# Altium schematic symbol library STM32F103RCT6.SchLib: 5 symbols
Pins are listed as number, name and electrical type; pins without a type are passive.

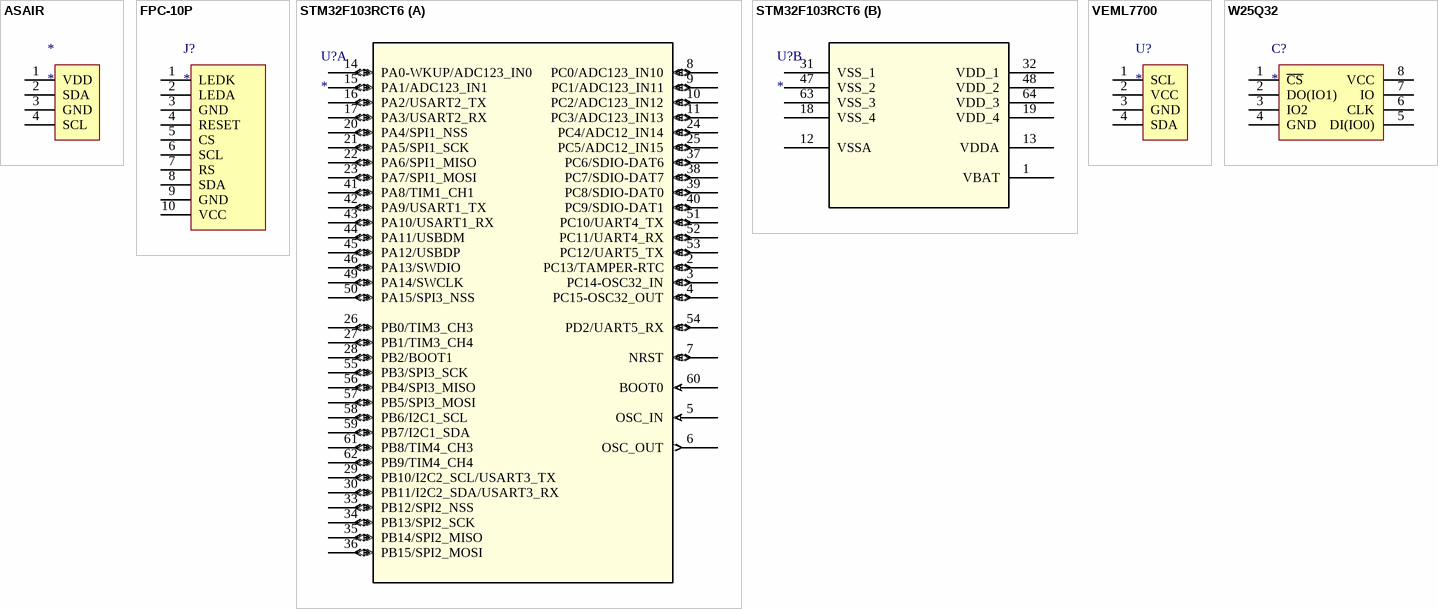
[diagram p0: symbols ASAIR to W25Q32]

## ASAIR
designator *
pins: 1 VDD, 2 SDA, 3 GND, 4 SCL

## FPC-10P
designator J?
footprint FPC-0R5-10P
pins: 1 LEDK, 2 LEDA, 3 GND, 4 RESET, 5 CS, 6 SCL, 7 RS, 8 SDA, 9 GND, 10 VCC

## STM32F103RCT6
designator U?
No Description Available; Mfr_Name: STMicroelectronics; RefDes: RefDes; Type: Type
footprint LQFP64-10x10mm
part A pins: 2 PC13/TAMPER-RTC (io), 3 PC14-OSC32_IN (io), 4 PC15-OSC32_OUT (io), 5 OSC_IN (in), 6 OSC_OUT (out), 7 NRST (io), 8 PC0/ADC123_IN10 (io), 9 PC1/ADC123_IN11 (io), 10 PC2/ADC123_IN12 (io), 11 PC3/ADC123_IN13 (io), 14 PA0-WKUP/ADC123_IN0 (io), 15 PA1/ADC123_IN1 (io), 16 PA2/USART2_TX (io), 17 PA3/USART2_RX (io), 20 PA4/SPI1_NSS (io), 21 PA5/SPI1_SCK (io), 22 PA6/SPI1_MISO (io), 23 PA7/SPI1_MOSI (io), 24 PC4/ADC12_IN14 (io), 25 PC5/ADC12_IN15 (io), 26 PB0/TIM3_CH3 (io), 27 PB1/TIM3_CH4 (io), 28 PB2/BOOT1 (io), 29 PB10/I2C2_SCL/USART3_TX (io), 30 PB11/I2C2_SDA/USART3_RX (io), 33 PB12/SPI2_NSS (io), 34 PB13/SPI2_SCK (io), 35 PB14/SPI2_MISO (io), 36 PB15/SPI2_MOSI (io), 37 PC6/SDIO-DAT6 (io), 38 PC7/SDIO-DAT7 (io), 39 PC8/SDIO-DAT0 (io), 40 PC9/SDIO-DAT1 (io), 41 PA8/TIM1_CH1 (io), 42 PA9/USART1_TX (io), 43 PA10/USART1_RX (io), 44 PA11/USBDM (io), 45 PA12/USBDP (io), 46 PA13/SWDIO (io), 49 PA14/SWCLK (io), 50 PA15/SPI3_NSS (io), 51 PC10/UART4_TX (io), 52 PC11/UART4_RX (io), 53 PC12/UART5_TX (io), 54 PD2/UART5_RX (io), 55 PB3/SPI3_SCK (io), 56 PB4/SPI3_MISO (io), 57 PB5/SPI3_MOSI (io), 58 PB6/I2C1_SCL (io), 59 PB7/I2C1_SDA (io), 60 BOOT0 (in), 61 PB8/TIM4_CH3 (io), 62 PB9/TIM4_CH4 (io)
part B pins: 1 VBAT (power), 12 VSSA (power), 13 VDDA (power), 18 VSS_4 (power), 19 VDD_4 (power), 31 VSS_1 (power), 32 VDD_1 (power), 47 VSS_2 (power), 48 VDD_2 (power), 63 VSS_3 (power), 64 VDD_3 (power)

## VEML7700
designator U?
footprint VEML7700 (VEML7700 is a high accuracy ambient light digital 16-bit  resolution sensor in a miniature transparent)
pins: 1 SCL, 2 VCC, 3 GND, 4 SDA

## W25Q32
designator C?
pins: 1 ~{CS}, 2 DO(IO1), 3 IO2, 4 GND, 5 DI(IO0), 6 CLK, 7 IO, 8 VCC